# Altium footprint library PICKIT2.PcbLib: 16 footprints
Each footprint in its own frame and in the unit in brackets; x right, y up, seen from the top. Pads: shape width x height; smd on the part's side, far side on the other; paste and mask are expansions set on the pad; w line width, h text height; cw(c..) or ccw(c..) is an arc to the next point about the centre after c.
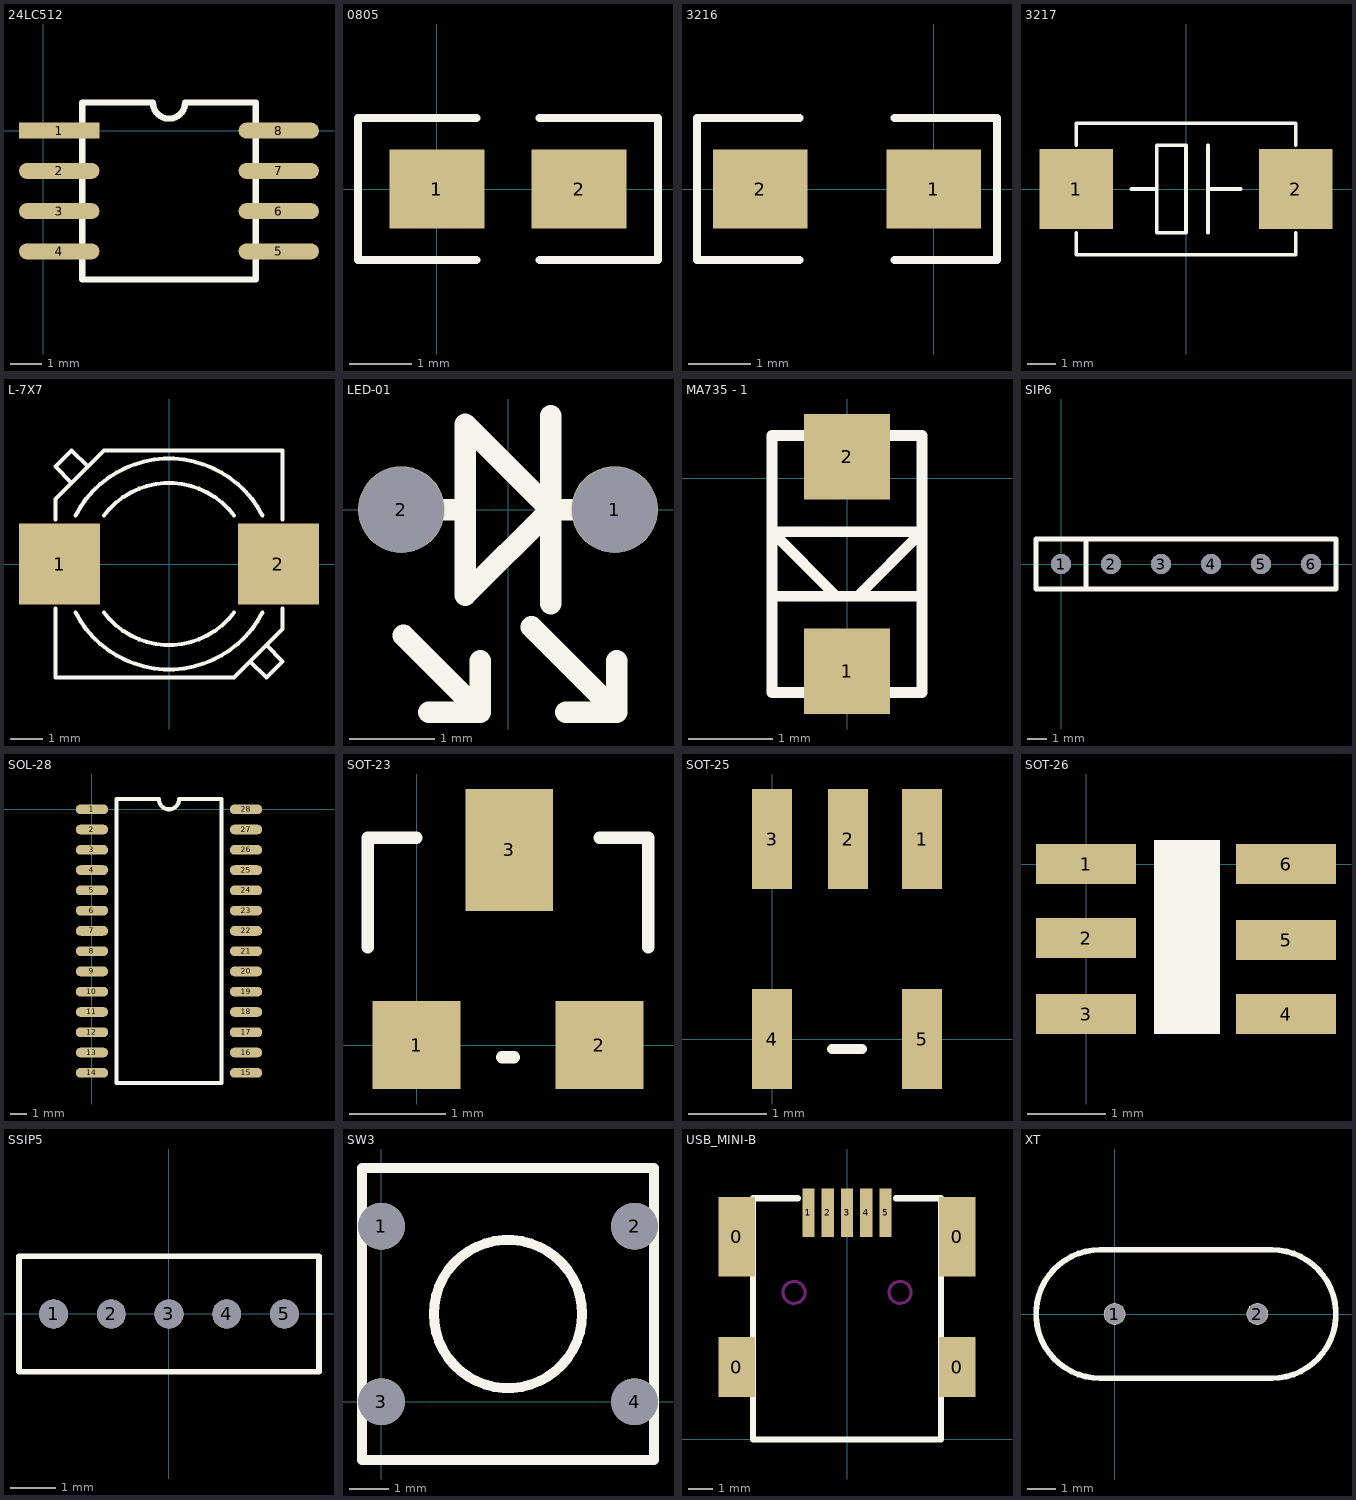
[diagram p0: the footprints below, top view; thin cyan lines are the x and y axes]

## 24LC512 [mil]
pads (8):
  rect 100x20 smd: 1(20,0)
  oval 100x20 smd: 2(20,-50) 3(20,-100) 4(20,-150) 5(292.99,-150) 6(292.99,-100) 7(292.99,-50) 8(292.99,0)
Top Overlay:
  lines w7.87: 134,35 48.47,35 48.47,-185 264.53,-185 264.53,35 179,35 ; 136.5,35 ccw(c156.5,35) 176.5,35
3D body "User Library-SOIC-8-1.step": height 68.9, standoff 0, extent 38.39,-171.46 274.61,21.46

## 0805 [mil]
pads (2):
  rect 60x50 smd: 1(0,0) 2(90,0)
Top Overlay:
  lines w5: 25,-45 -50,-45 -50,45 25,45 ; 65,-45 140,-45 140,45 65,45
3D body "CircuitWorks-RESISTOR 0805.step": height 16.93, standoff -1.18, extent 5.64,-24.8 84.37,24.81

## 3216 [mil]
pads (2):
  rect 60x50 smd: 1(0,0) 2(-110,0)
Top Overlay:
  lines w5: -85,-45 -150,-45 -150,45 -85,45 ; -25,-45 40,-45 40,45 -25,45
3D body "User Library-CAP_TANT_3216-18_A_case.step": height 70.87, standoff 0, extent -122.05,-35.44 11.81,35.43

## 3217 [mil]
pads (2):
  rect 100x110 smd: 1(-150,0) 2(150,0)
Top Overlay:
  lines w5: -150,-60 -150,-90 150,-90 150,-60 ; -150,60 -150,90 150,90 150,60 ; -75,0 -40,0 ; 30,-60 30,60 ; 30,0 75,0 ; -40,-60 0,-60 0,60 -40,60 -40,-60
3D body "User Library-CAP_TANT_7343-31.step": height 122.05, standoff 0, extent -149.6,-90.54 149.61,90.56

## L-7X7 [mil]
pads (2):
  rect 100x100 on Top hole 1: 1(-135,0) 2(135,0)
Top Overlay:
  lines w5: -140,-55 -140,-140 80,-140 140,-80 140,-55 ; -140,55 -140,80 -80,140 140,140 140,55 ; -120,100 -140,120 -120,140 -100,120 ; -115.26,-60.13 ccw(c0,0) 115.26,-60.13 ; -115.26,60.13 cw(c0,0) 115.26,60.13 ; -80,-60 ccw(c0,0) 80,-60 ; -80,60 cw(c0,0) 80,60 ; 99.82,-120.18 100.18,-120.18 120,-140 140,-120 120,-100
3D body: height 98.43, standoff 0, extent -143.7,-131.89 143.71,131.89

## LED-01 [mil]
pads (2):
  round 40 / inner round 40 / far side oval 70.87x86.61 hole 39.37: 1(49.21,0) 2(-49.21,0)
Top Overlay:
  lines w10: -53.15,0 -19.68,0 -19.68,-39.37 ; -48.23,-58.07 -12.79,-93.51 ; -12.79,-69.88 -12.79,-93.51 ; 10.83,-54.14 46.26,-89.57 50.2,-93.51 ; 50.2,-69.88 50.2,-93.51 ; -19.68,-39.37 19.68,0 ; -19.68,-39.37 19.68,0 ; -19.68,-39.37 -19.68,39.37 19.68,0 ; -12.79,-93.51 -36.41,-93.51 -12.79,-93.51 ; 19.68,0 45.27,0 ; 19.68,0 19.68,43.31 19.68,-43.31 19.68,0 ; 45.27,0 45.28,0 ; 50.2,-93.51 26.58,-93.51 50.2,-93.51
3D body "User Library-led 3mm white.STEP": height 195.87, standoff -98.43, extent -65.27,-65.24 61.24,64.57

## MA735 - 1 [mil]
pads (2):
  rect 40x40 smd: 1(0,-90) 2(0,10)
Top Overlay:
  lines w5: -35,-55 35,-55 ; -5,-55 -35,-25 35,-25 5,-55 ; -35,-100 -35,20 35,20 35,-100 -10,-100 -35,-100
3D body "User Library-SOD323-1.step": height 43.31, standoff 0, extent -26.57,-90.15 26.58,12.21

## SIP6 [mil]
pads (6):
  round 40 / inner round 40 / far side oval 60x80 hole 40: 1(0,0) 2(100,0) 3(200,0) 4(300,0) 5(400,0) 6(500,0)
Top Overlay:
  lines w10: 50,-50 50,50 ; -50,-50 -50,50 550,50 550,-50 -50,-50
3D body "female_header_a-bl254-ea-g06d.stp": height 112.2, standoff -112.2, extent -54.92,-7.87 554.92,388.2

## SOL-28 [mil]
pads (28):
  oval 80x24 smd: 1(0,0) 2(0,-50) 3(0,-100) 4(0,-150) 5(0,-200) 6(0,-250) 7(0,-300) 8(0,-350) 9(0,-400) 10(0,-450) 11(0,-500) 12(0,-550) 13(0,-600) 14(0,-650) 15(380,-650) 16(380,-600) 17(380,-550) 18(380,-500) 19(380,-450) 20(380,-400) 21(380,-350) 22(380,-300) 23(380,-250) 24(380,-200) 25(380,-150) 26(380,-100) 27(380,-50) 28(380,0)
Top Overlay:
  lines w10: 60,-675 60,25 165,25 ccw(c190,25) 215,25 320,25 320,-675 60,-675
3D body "CircuitWorks-SOL-28.step": height 68.9, standoff 0, extent 6.93,-671.46 373.07,27.76

## SOT-23 [mil]
pads (3):
  rect 36x36 smd: 1(0,0) 2(75,0)
  rect 36x50 smd: 3(38,80)
Top Overlay:
  lines w5: -20,40 -20,85 0,85 ; 35,-5 40,-5 ; 75,85 95,85 95,40
3D body "CircuitWorks-SOT-23.step": height 43.31, standoff 0, extent -21.56,-9.22 96.55,89.21

## SOT-25 [mil]
pads (5):
  rect 20x50 smd: 1(75,100) 2(38,100) 3(0,100) 4(0,0) 5(75,0)
Top Overlay:
  lines w5: 30,-5 45,-5
3D body "CircuitWorks-SOT-23-5.step": height 43.31, standoff 0, extent -21.56,0.79 96.56,99.21

## SOT-26 [mil]
pads (6):
  rect 50x20 smd: 1(0,0) 2(0,-37) 3(0,-75) 4(100,-75) 5(100,-38) 6(100,0)
Top Overlay:
  region: 34,12 34,-85 67,-85 67,12
3D body "User Library-SOT23-6-1.step": height 43, standoff 0, extent 2.36,-92.5 97.86,17.5

## SSIP5 [mil]
pads (5):
  round 25 / inner round 25 / far side oval 35x60 hole 25: 1(-100,0) 2(-50,0) 3(0,0) 4(50,0) 5(100,0)
Top Overlay:
  lines w5: -130,-50 130,-50 130,50 -130,50 -130,-50

## SW3 [mm]
pads (4):
  round 1.2 / inner round 1.2 / far side oval 1.778x2 hole 1.2: 1(0,4.5) 3(0,0)
  round 1.2 / inner round 1.2 / far side round 2 hole 1.2: 2(6.5,4.5) 4(6.5,0)
Top Overlay:
  circle w0.254: c3.25,2.25 r1.904
  lines w0.254: -0.5,-1.5 7,-1.5 7,6 -0.5,6 -0.5,-1.5
3D body "User Library-FSM10JAH(1-1825910-9).step": height 7.3, standoff -3.51, extent -0.648,-0.745 7.15,5.245

## USB_MINI-B [mm]
pads (9):
  rect 1.5x2.5 smd: 0(-4.572,3) 0(4.572,3)
  rect 1.5x3.3 smd: 0(-4.572,8.4) 0(4.572,8.4)
  rect 0.508x2 smd: 1(-1.6,9.398) 2(-0.8,9.398) 3(0,9.398) 4(0.8,9.398) 5(1.6,9.398)
Top Overlay:
  lines w0.254: -2.032,10 -3.9,10 -3.9,0 3.9,0 3.9,10 2.032,10
Keep-Out Layer:
  circle w0.127: c2.2,6.096 r0.457
  circle w0.127: c-2.2,6.096 r0.457
3D body "User Library-USB_mini_B.step": height 3.95, standoff -1, extent -5.35,0.09 5.35,9.29

## XT [mil]
pads (2):
  round 30 / inner round 30 / far side round 62.99 hole 27.56: 1(0,0) 2(196.85,0)
Top Overlay:
  lines w7.87: -19.69,-88.58 cw(c-19.68,0) -19.68,88.58 216.54,88.58 cw(c216.54,0) 216.54,-88.58 -19.68,-88.58
3D body "User Library-HC49S.STEP": height 142.73, standoff -77.74, extent -118.55,-91.53 321.32,92.43